# EAGLE library part AD8397-EPAD (library SparkFun-Retired)
Rail-to-rail high current output op-amp Retired: IC-10041 Retired: IC-09592
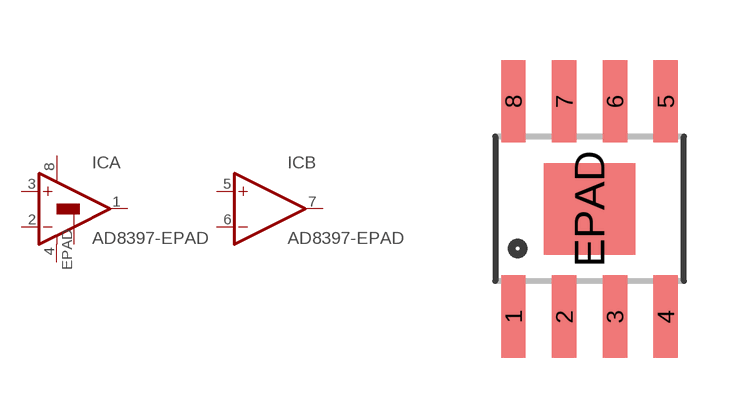
[diagram p53: symbol with the pads of SO08-EPAD; footprint SO08-EPAD]

Designator prefix IC; gates A=OP-AMP+--1 B=OP-AMP-1

## AD8397-EPADEPAD  [SO08-EPAD]
1  A:OUT  out
2  A:-IN  in
3  A:+IN  in
4  A:V-  pwr
5  B:+IN  in
6  B:-IN  in
7  B:OUT  out
8  A:V+  pwr
EPAD  A:EPAD

## Footprint SO08-EPAD (pad centres in mm)
smd 0.61 x 2.057: 1 -1.905,-2.692; 2 -0.635,-2.692; 3 0.635,-2.692; 4 1.905,-2.692; 5 1.905,2.692; 6 0.635,2.692; 7 -0.635,2.692; 8 -1.905,2.692
smd 2.286 x 2.286: EPAD 0,0